# EAGLE library part MICROMATCH-12 (library Taylor)
MicroMaTch 12 8-215464-2 / 1-215464-2 Drawing Number C-215464 DDEController.pdf
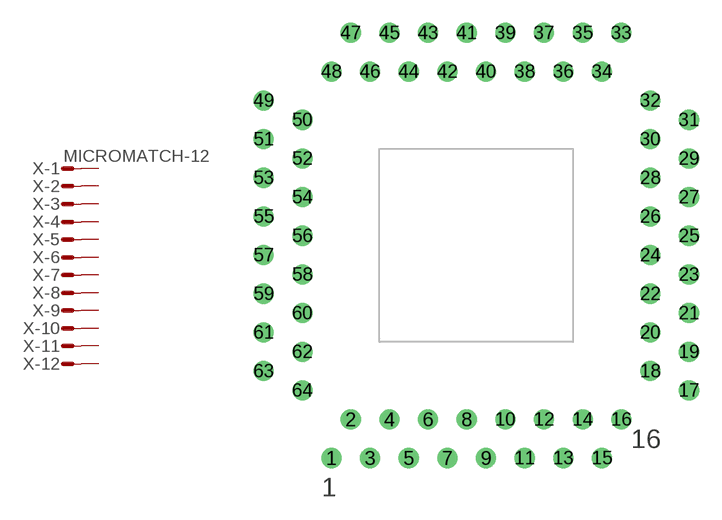
[diagram p10: symbol with the pads of LQFP64_TESTHEADER; footprint LQFP64_TESTHEADER]

Designator prefix X; gates -1=MV -2=M -3=M -4=M -5=M -6=M -7=M -8=M -9=M -10=M -11=M -12=M

## MICROMATCH-12  [LQFP64_TESTHEADER]
1  -1:S  pas
2  -2:S  pas
3  -3:S  pas
4  -4:S  pas
5  -5:S  pas
6  -6:S  pas
7  -7:S  pas
8  -8:S  pas
9  -9:S  pas
10  -10:S  pas
11  -11:S  pas
12  -12:S  pas

## Footprint LQFP64_TESTHEADER (pad centres in mm)
MicroMaTch 12 8-215464-2 / 1-215464-2 Drawing Number C-215464 DDEController.pdf
drill 0.813: 1 -9.525,-13.97; 2 -8.255,-11.43; 3 -6.985,-13.97; 4 -5.715,-11.43; 5 -4.445,-13.97; 6 -3.175,-11.43; 7 -1.905,-13.97; 8 -0.635,-11.43; 9 0.635,-13.97; 10 1.905,-11.43; 11 3.175,-13.97; 12 4.445,-11.43; 13 5.715,-13.97; 14 6.985,-11.43; 15 8.255,-13.97; 16 9.525,-11.43; 17 13.97,-9.525; 18 11.43,-8.255; 19 13.97,-6.985; 20 11.43,-5.715; 21 13.97,-4.445; 22 11.43,-3.175; 23 13.97,-1.905; 24 11.43,-0.635; 25 13.97,0.635; 26 11.43,1.905; 27 13.97,3.175; 28 11.43,4.445; 29 13.97,5.715; 30 11.43,6.985; 31 13.97,8.255; 32 11.43,9.525; 33 9.525,13.97; 34 8.255,11.43; 35 6.985,13.97; 36 5.715,11.43; 37 4.445,13.97; 38 3.175,11.43; 39 1.905,13.97; 40 0.635,11.43; 41 -0.635,13.97; 42 -1.905,11.43; 43 -3.175,13.97; 44 -4.445,11.43; 45 -5.715,13.97; 46 -6.985,11.43; 47 -8.255,13.97; 48 -9.525,11.43; 49 -13.97,9.525; 50 -11.43,8.255; 51 -13.97,6.985; 52 -11.43,5.715; 53 -13.97,4.445; 54 -11.43,3.175; 55 -13.97,1.905; 56 -11.43,0.635; 57 -13.97,-0.635; 58 -11.43,-1.905; 59 -13.97,-3.175; 60 -11.43,-4.445; 61 -13.97,-5.715; 62 -11.43,-6.985; 63 -13.97,-8.255; 64 -11.43,-9.525